# Altium schematic symbol library Hello.SchLib: 388 symbols (part 3 of 3)
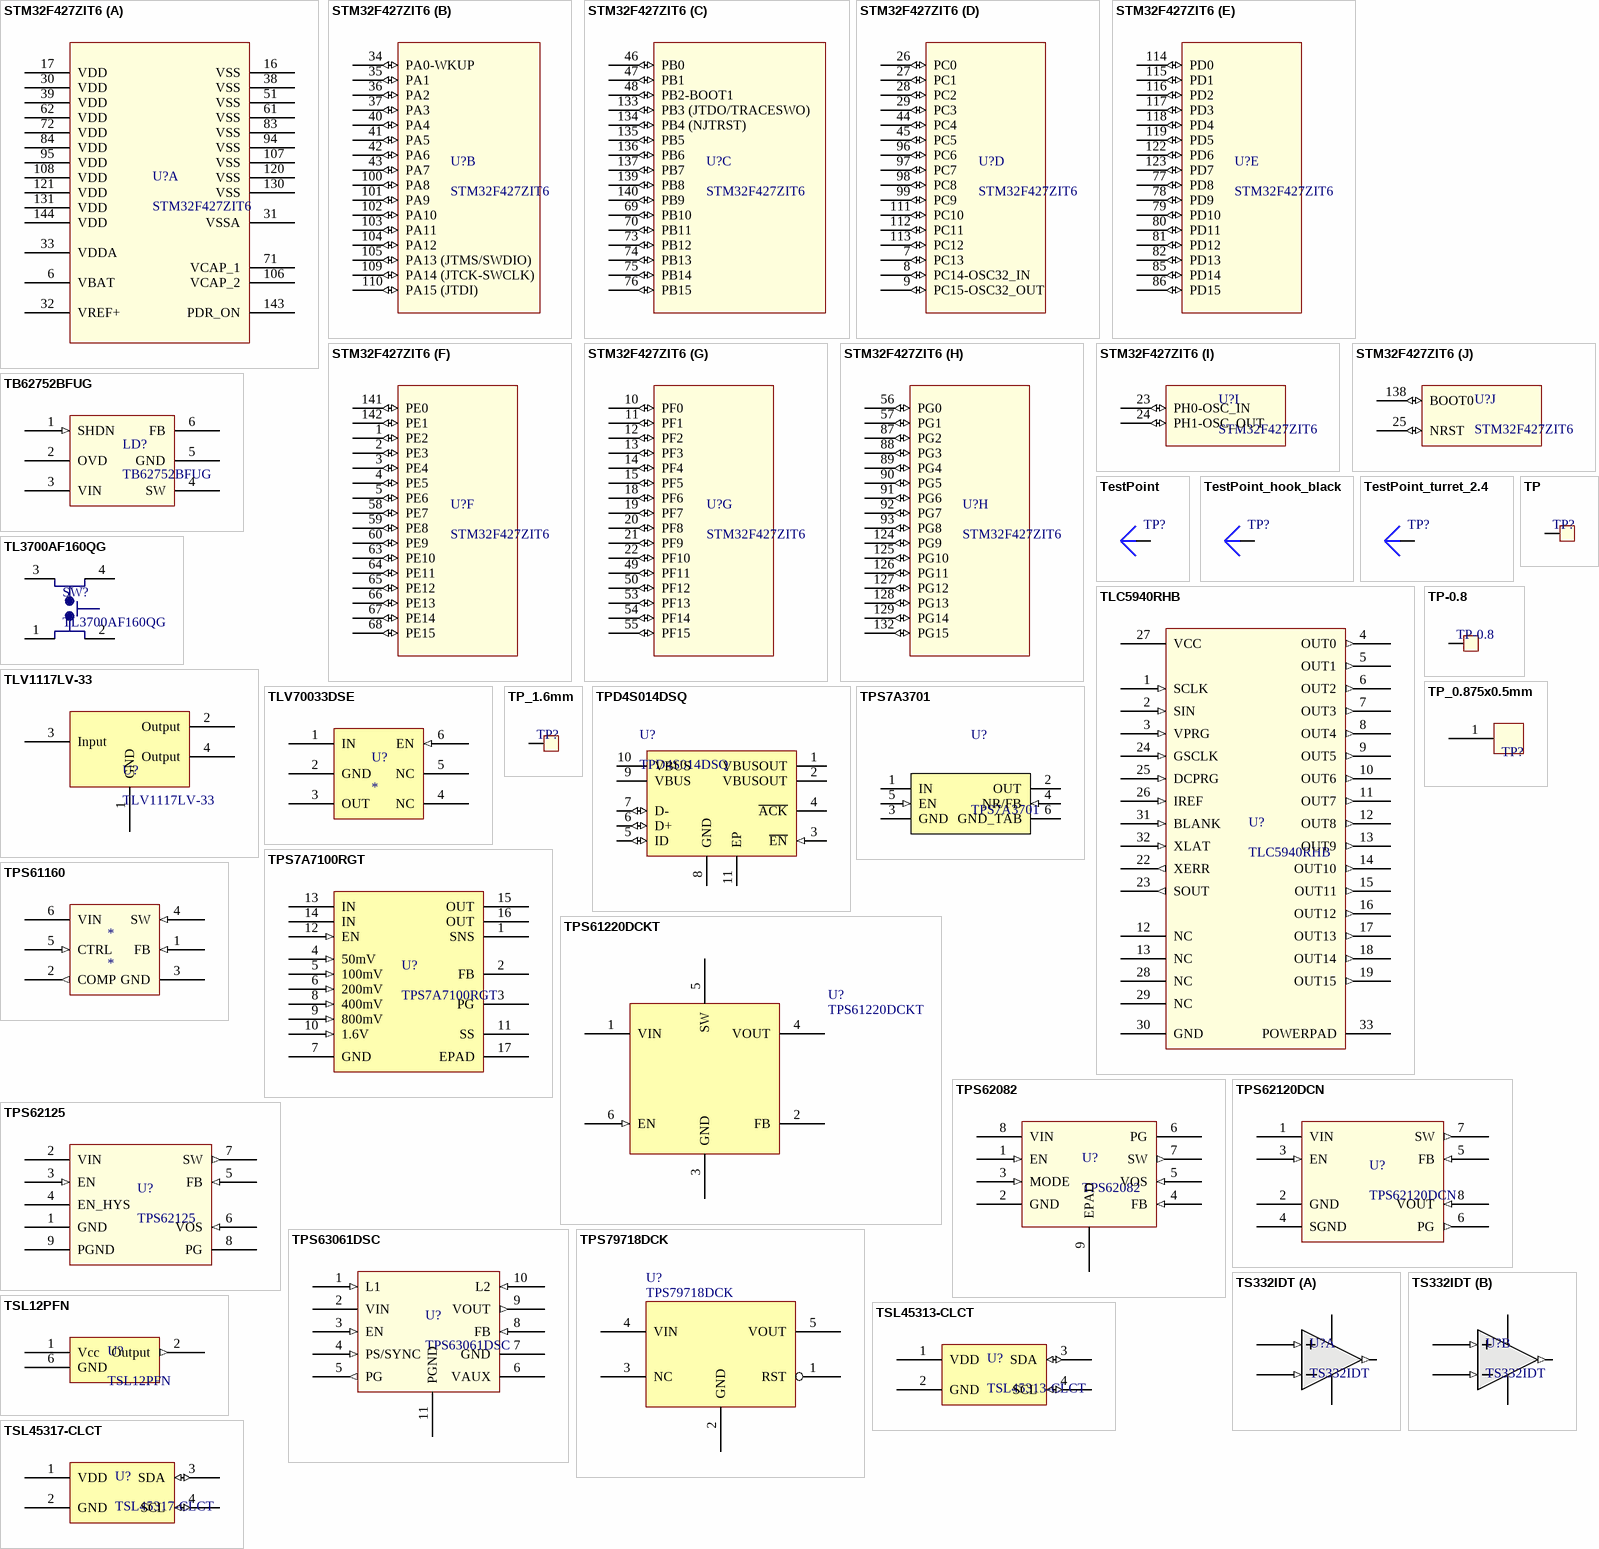
[diagram p13: symbols STM32F427ZIT6 to TSL45317-CLCT]

## TPS61220DCKT
designator U?
TI Boost Converter; PN: TPS61220DCKT; Vendor: TI
footprint SOT65P212X110-6N (SOT23, 6-Leads, Body 2.3x2.3mm (max), Pitch 0.65mm, IPC Medium Density)
pins: 1 VIN (power), 2 FB, 3 GND (power), 4 VOUT (power), 5 SW, 6 EN (in)

## TPS62082
designator U?
1.2A buck converter with snoozemode; Vendor: TI; PN: TPS62082
footprint QFN50P200X200X80_HS-9N (QFN, 8-Leads, Body 2.00x2.00mm, Pitch 0.50mm, Thermal Pad 1.60x0.90mm, IPC Medium Density)
pins: 1 EN (in), 2 GND (power), 3 MODE (in), 4 FB (in), 5 VOS (in), 6 PG (oc), 7 SW (out), 8 VIN (power), 9 EPAD (power)

## TPS62120DCN
designator U?
15V, 75 mA DC/DC buck converter; Vendor: TI; PN: TPS62120DCN
pins: 1 VIN (power), 2 GND (power), 3 EN (in), 4 SGND (power), 5 FB (in), 6 PG (out), 7 SW (out), 8 VOUT (in)

## TPS62125
designator U?
Bukc-Boost DC/DC converter 2A output; Vendor: TI; PN: TPS62125
footprint TPS62125 (Buck DC/DC converter 300mA)
pins: 1 GND (power), 2 VIN (power), 3 EN (in), 4 EN_HYS (oc), 5 FB (in), 6 VOS (in), 7 SW (out), 8 PG (oc), 9 PGND (power)

## TPS63061DSC
designator U?
Bukc-Boost DC/DC converter 2A output; Vendor: TI; PN: TPS63061DSC
footprint TPS6306x (QFN custom footprint for TI TPS6306x)
pins: 1 L1 (in), 2 VIN (power), 3 EN (in), 4 PS/SYNC (in), 5 PG (out), 6 VAUX, 7 GND (power), 8 FB (in), 9 VOUT (out), 10 L2 (in), 11 PGND (power)

## TPS79718DCK
designator U?
LDO 1.8V SC70-5; Vendor: TI; PN: TPS79718DCK
footprint SOT65P212X110-5N (SOT23, 5-Leads, Body 2.3x2.3mm (max), Pitch 0.65mm, IPC Medium Density)
pins: 1 RST (oc), 2 GND (power), 3 NC, 4 VIN (power), 5 VOUT (power)

## TS332IDT
designator U?
Analog Devices Comparator; Vendor: ST; PN: TS332IDT
footprint SOIC-8 (SOIC, 8-Leads, Body 4.92x3.90mm, Pitch 1.27mm, IPC High Density)
part A pins: 1 Vout (out), 2 IN1- (in), 3 IN1+ (in), 4 Vss (power), 8 Vdd (power)
part B pins: 4 Vss (power), 5 IN2+ (in), 6 IN2- (in), 7 Vout2 (out), 8 Vdd (power)

## TSL12PFN
designator U?
AMS TSL12PFN 400-700nm Optical Sensor with integrated TIA
footprint TSL12PFN (AMS 400-700nm optical sensor with integrated TIA)
pins: 1 Vcc (power), 2 Output (out), 6 GND (power)

## TSL45313-CLCT
designator U?
Digital ambient light sensor; Vendor: TAOS; PN: TSL45313-CLCT
footprint TSL4531 (TAOS ALS)
pins: 1 VDD (power), 2 GND (power), 3 SDA (io), 4 SCL (io)

## TSL45317-CLCT
designator U?
Digital ambient light sensor; Vendor: TAOS; PN: TSL45317-CLCT
footprint TSL4531 (TAOS ALS)
pins: 1 VDD (power), 2 GND (power), 3 SDA (io), 4 SCL (io)

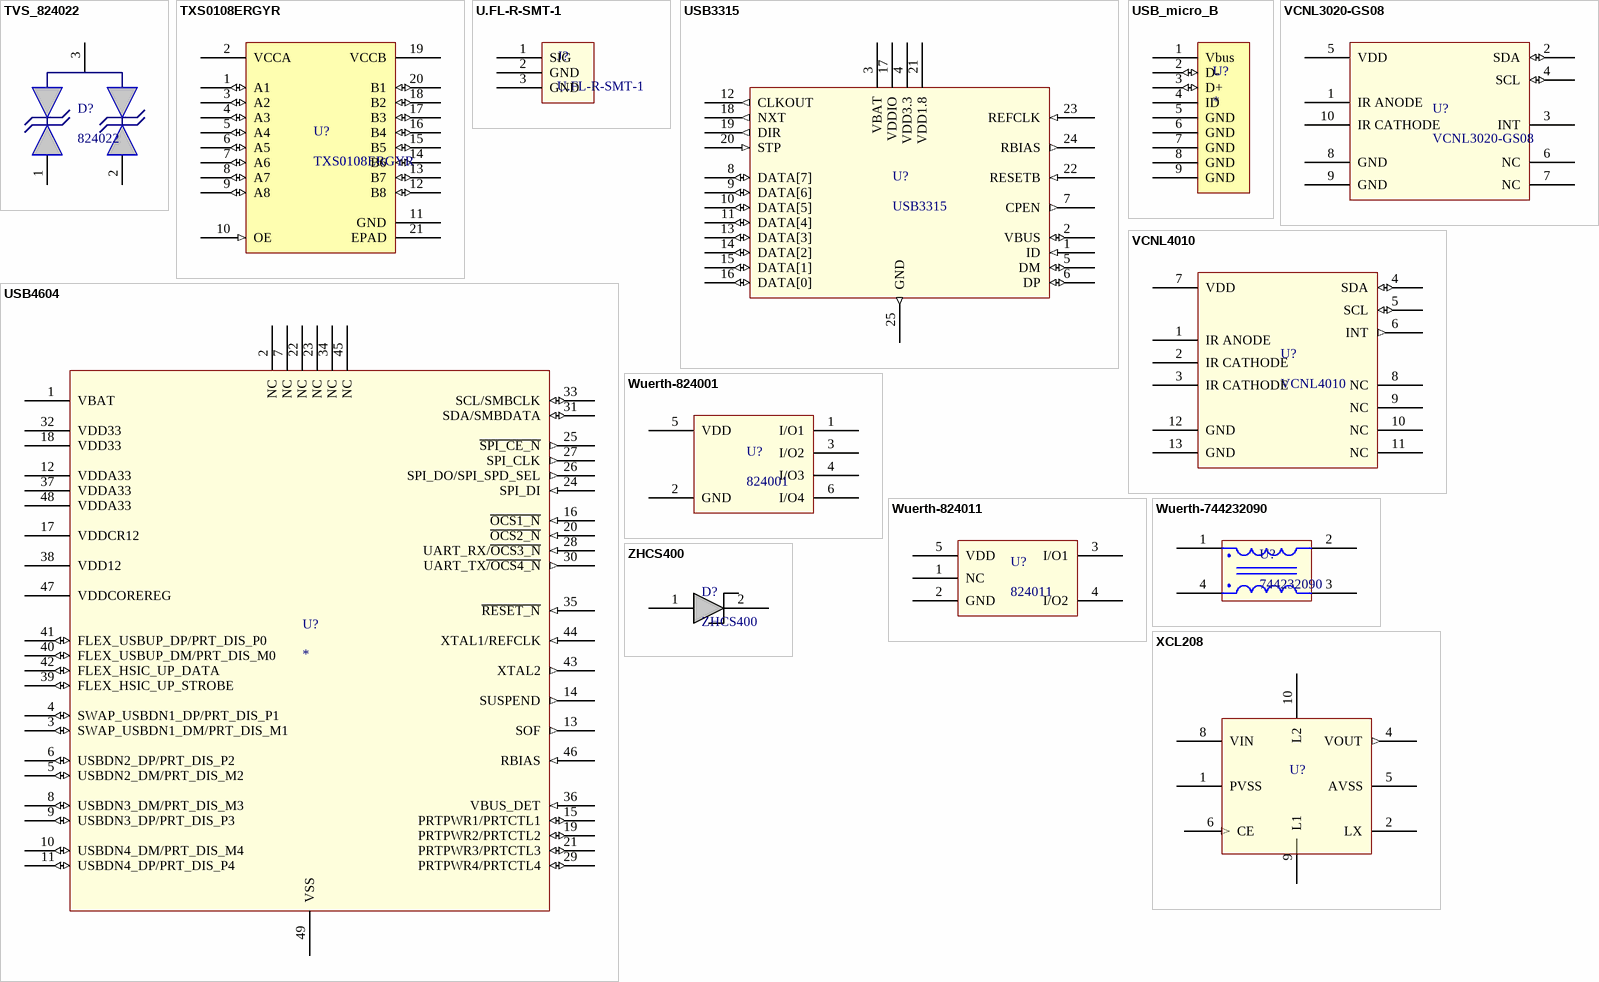
[diagram p11: symbols TVS_824022 to ZHCS400]

## TVS_824022
designator D?, comment 824022
Wuerth dual TVS diode; PN: 824022; Vendor: Wuerth
footprint SOT-23
pins: 1 I/O, 2 I/O, 3 GND

## TXS0108ERGYR
designator U?
8-BIT BIDIRECTIONAL VOLTAGE-LEVEL TRANSLATOR  FOR OPEN-DRAIN AND PUSH-PULL APPLICATIONS; Vendor: TI; PN: TXS0108ERGYR
footprint QFN50P450X350X100_HS-21N (QFN, 20-Leads, Body 4.50x3.50mm, Pitch 0.50mm/1.50mm, Thermal Pad 3.05x2.05mm, IPC Medium Density)
pins: 1 A1 (io), 2 VCCA (power), 3 A2 (io), 4 A3 (io), 5 A4 (io), 6 A5 (io), 7 A6 (io), 8 A7 (io), 9 A8 (io), 10 OE (in), 11 GND (power), 12 B8 (io), 13 B7 (io), 14 B6 (io), 15 B5 (io), 16 B4 (io), 17 B3 (io), 18 B2 (io), 19 VCCB (power), 20 B1 (io), 21 EPAD

## U.FL-R-SMT-1
designator J?
U.FL type antenna connector; Vendor: Hirose; PN: U.FL-R-SMT-1
footprint U.FL-R-SMT-1 (U.FL type antenna connector)
pins: 1 SIG, 2 GND, 3 GND

## USB3315
designator U?
Hi-speed USB transceiver with ULPI interface; Vendor: SMSC; PN: USB3315
footprint QFN-24_0.5 (QFN-24 with a 0.5mm pitch)
pins: 1 ID (in), 2 VBUS (io), 3 VBAT (power), 4 VDD3.3 (power), 5 DM (io), 6 DP (io), 7 CPEN (out), 8 DATA[7] (io), 9 DATA[6] (io), 10 DATA[5] (io), 11 DATA[4] (io), 12 CLKOUT (out), 13 DATA[3] (io), 14 DATA[2] (io), 15 DATA[1] (io), 16 DATA[0] (io), 17 VDDIO (power), 18 NXT (out), 19 DIR (out), 20 STP (in), 21 VDD1.8 (power), 22 RESETB (in), 23 REFCLK (in), 24 RBIAS (out), 25 GND (out)

## USB4604
designator U?
4-port USB 2.0 hub controller; PN: USB4604; Vendor: SMSC
footprint SQFN-48
pins: 1 VBAT (power), 2 NC, 3 SWAP_USBDN1_DM/PRT_DIS_M1 (io), 4 SWAP_USBDN1_DP/PRT_DIS_P1 (io), 5 USBDN2_DM/PRT_DIS_M2 (io), 6 USBDN2_DP/PRT_DIS_P2 (io), 7 NC, 8 USBDN3_DM/PRT_DIS_M3 (io), 9 USBDN3_DP/PRT_DIS_P3 (io), 10 USBDN4_DM/PRT_DIS_M4 (io), 11 USBDN4_DP/PRT_DIS_P4 (io), 12 VDDA33 (power), 13 SOF (out), 14 SUSPEND (out), 15 PRTPWR1/PRTCTL1 (io), 16 ~{OCS1_N} (in), 17 VDDCR12 (power), 18 VDD33 (power), 19 PRTPWR2/PRTCTL2 (io), 20 ~{OCS2_N} (in), 21 PRTPWR3/PRTCTL3 (io), 22 NC, 23 NC, 24 SPI_DI (in), 25 ~{SPI_CE_N} (out), 26 SPI_DO/SPI_SPD_SEL (out), 27 SPI_CLK (out), 28 UART_RX/~{OCS3_N} (in), 29 PRTPWR4/PRTCTL4 (io), 30 UART_TX~{/OCS4_N} (out), 31 SDA/SMBDATA (io), 32 VDD33 (power), 33 SCL/SMBCLK (io), 34 NC, 35 ~{RESET_N} (in), 36 VBUS_DET (in), 37 VDDA33 (power), 38 VDD12 (power), 39 FLEX_HSIC_UP_STROBE (io), 40 FLEX_USBUP_DM/PRT_DIS_M0 (io), 41 FLEX_USBUP_DP/PRT_DIS_P0 (io), 42 FLEX_HSIC_UP_DATA (io), 43 XTAL2 (out), 44 XTAL1/REFCLK (in), 45 NC, 46 RBIAS (in), 47 VDDCOREREG (power), 48 VDDA33 (power), 49 VSS (power)

## USB_micro_B
designator U?
board-cut USB connector; PN: TE-2040343; Vendor: TE
footprint TE-2040343 (TE micro USB connector, board cut-out mount)
pins: 1 Vbus (power), 2 D- (io), 3 D+ (io), 4 ID, 5 GND (power), 6 GND (power), 7 GND (power), 8 GND (power), 9 GND (power)

## VCNL3020-GS08
designator U?
Proximity and ambient light sensor with IR emitter and I2C interface; Vendor: Vishay; PN: VCNL3020-GS08
footprint vcnl3020 (Vishay proximity sensor)
pins: 1 IR ANODE, 2 SDA (io), 3 INT (oc), 4 SCL (io), 5 VDD (power), 6 NC, 7 NC, 8 GND (power), 9 GND (power), 10 IR CATHODE

## VCNL4010
designator U?
Proximity and ambient light sensor with IR emitter and I2C interface plus interrupt; Vendor: Vishay; PN: VCNL4010
footprint VCNL4010 (Vishay ALS and proximity sensor with interrupt)
pins: 1 IR ANODE, 2 IR CATHODE, 3 IR CATHODE, 4 SDA (io), 5 SCL (io), 6 INT (out), 7 VDD (power), 8 NC, 9 NC, 10 NC, 11 NC, 12 GND (power), 13 GND (power)

## Wuerth-824001
designator U?, comment 824001
ESD protection IC for 2 I/O channels and VDD; Vendor: Wuerth; PN: 824001
footprint SOT-23-6 (SOT-23 6 pin, 0.95mm pitch, IPC Medium density)
pins: 1 I/O1, 2 GND (power), 3 I/O2, 4 I/O3, 5 VDD (power), 6 I/O4

## Wuerth-824011
designator U?, comment 824011
ESD protection IC for 2 I/O channels and VDD; Vendor: Wuerth; PN: 824011
footprint SOT-23-5 (SOT-23 5 pin, 0.95mm pitch, IPC Medium density)
pins: 1 NC, 2 GND (power), 3 I/O1, 4 I/O2, 5 VDD (power)

## Wuerth-744232090
designator U?, comment 744232090
Common mode line filter; Vendor: Wuerth; PN: 744232090
footprint Wuert-744232090 (Common mode line filter)
pins: 1, 2, 3, 4

## XCL208
designator U?  (value not drawn)
Torex micro DC-DC Converter
footprint USP-10B03 (10-pin QFN 2.5 x2.15x1.0mm)
pins: 1 PVSS (power), 2 LX, 4 VOUT (out), 5 AVSS (power), 6 CE (in), 8 VIN (power), 9 L1, 10 L2

## ZHCS400
designator D?
Schottky Diode
footprint ZHCS400 (schottky diode)
pins: 1 Anode, 2 Cathode